# Altium schematic symbol library [CON] Разъемы WF.SchLib: 1 symbol
Pins are listed as number, name and electrical type; pins without a type are passive.

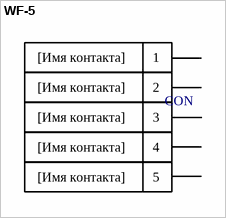
[diagram p0: symbol WF-5]

## WF-5
designator CON
footprint WF-5
pins: 1, 2, 3, 4, 5
text: [Имя контакта]